# Altium footprint library SM_DPAK.PcbLib: 1 footprints
Each footprint in its own frame and in the unit in brackets; x right, y up, seen from the top. Pads: shape width x height; smd on the part's side, far side on the other; paste and mask are expansions set on the pad; w line width, h text height; cw(c..) or ccw(c..) is an arc to the next point about the centre after c.
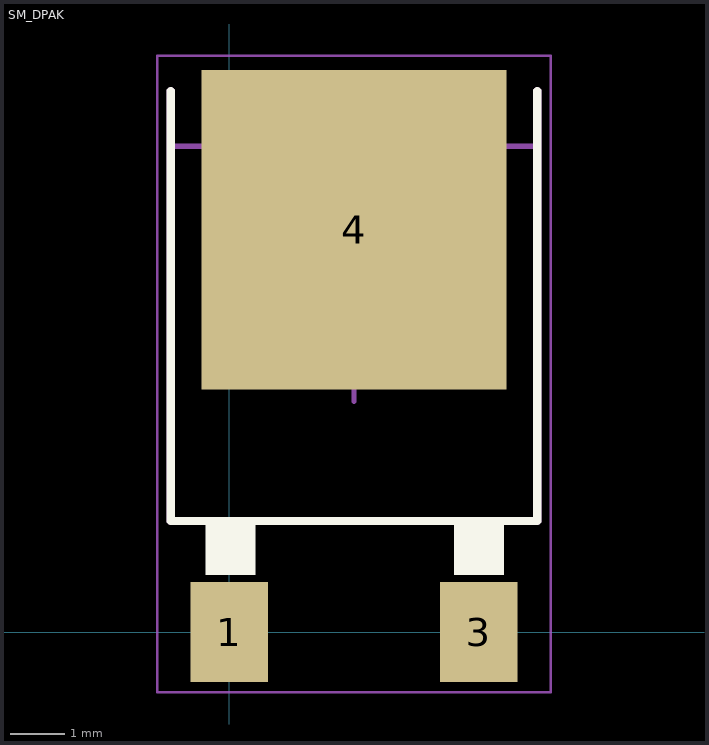
[diagram p0: the footprint, top view; thin cyan lines are the x and y axes]

## SM_DPAK [mil]
pads (3):
  rect 56x72 smd: 1(0,0) 3(180,0)
  rect 220x230 smd: 4(90,290)
Top Overlay:
  rectangle: -17,41 19,81
  rectangle: 162,41 198,81
  lines w6: -42,390 -42,80 222,80 222,390
Mechanical 1:
  lines w6: -42,390 -42,80 222,80 222,390
Mechanical 13:
  lines w3.94: -41.89,105.29 -41.89,350.17 221.89,350.17 221.89,105.29
Mechanical 15:
  lines w1.97: -51.73,-43.33 -51.73,415.33 231.73,415.33 231.73,-43.33 -51.73,-43.33
  lines w3.94: 70.31,186 109.69,186 ; 90,166.31 90,205.69
3D body: height 94.09, standoff 0, extent -41.89,105.29 221.89,350.17